# EAGLE library part DEC40PIN (library dec-con)
PIN HEADER
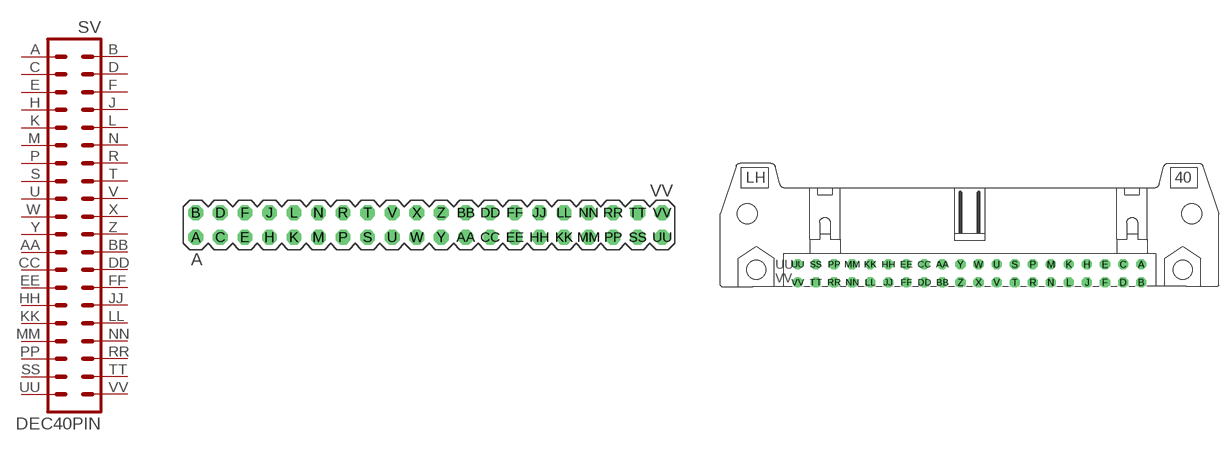
[diagram p8: symbol with the pads of DEC40PINV; footprints DEC40PINV, DEC40PINH]

Designator prefix SV

## DEC40PINV  [DEC40PINV]
A  1
AA  23
B  2
BB  24
C  3
CC  25
D  4
DD  26
E  5
EE  27
F  6
FF  28
H  7
HH  29
J  8
JJ  30
K  9
KK  31
L  10
LL  32
M  11
MM  33
N  12
NN  34
P  13
PP  35
R  14
RR  36
S  15
SS  37
T  16
TT  38
U  17
UU  39
V  18
VV  40
W  19
X  20
Y  21
Z  22

## DEC40PINH  [DEC40PINH]
Pads as for DEC40PINV

## Footprint DEC40PINV (pad centres in mm)
PIN HEADER
drill 1.016 octagon: A -24.13,-1.27; AA 3.81,-1.27; B -24.13,1.27; BB 3.81,1.27; C -21.59,-1.27; CC 6.35,-1.27; D -21.59,1.27; DD 6.35,1.27; E -19.05,-1.27; EE 8.89,-1.27; F -19.05,1.27; FF 8.89,1.27; H -16.51,-1.27; HH 11.43,-1.27; J -16.51,1.27; JJ 11.43,1.27; K -13.97,-1.27; KK 13.97,-1.27; L -13.97,1.27; LL 13.97,1.27; M -11.43,-1.27; MM 16.51,-1.27; N -11.43,1.27; NN 16.51,1.27; P -8.89,-1.27; PP 19.05,-1.27; R -8.89,1.27; RR 19.05,1.27; S -6.35,-1.27; SS 21.59,-1.27; T -6.35,1.27; TT 21.59,1.27; U -3.81,-1.27; UU 24.13,-1.27; V -3.81,1.27; VV 24.13,1.27; W -1.27,-1.27; X -1.27,1.27; Y 1.27,-1.27; Z 1.27,1.27

## Footprint DEC40PINH (pad centres in mm)
CONNECTOR
drill 0.914 octagon: A 24.13,1.27; AA -3.81,1.27; B 24.13,-1.27; BB -3.81,-1.27; C 21.59,1.27; CC -6.35,1.27; D 21.59,-1.27; DD -6.35,-1.27; E 19.05,1.27; EE -8.89,1.27; F 19.05,-1.27; FF -8.89,-1.27; H 16.51,1.27; HH -11.43,1.27; J 16.51,-1.27; JJ -11.43,-1.27; K 13.97,1.27; KK -13.97,1.27; L 13.97,-1.27; LL -13.97,-1.27; M 11.43,1.27; MM -16.51,1.27; N 11.43,-1.27; NN -16.51,-1.27; P 8.89,1.27; PP -19.05,1.27; R 8.89,-1.27; RR -19.05,-1.27; S 6.35,1.27; SS -21.59,1.27; T 6.35,-1.27; TT -21.59,-1.27; U 3.81,1.27; UU -24.13,1.27; V 3.81,-1.27; W 1.27,1.27; X 1.27,-1.27; Y -1.27,1.27; Z -1.27,-1.27
drill 0.914: VV -24.13,-1.27